# Altium footprint library CON 90814-0816.PcbLib: 1 footprints
Each footprint in its own frame and in the unit in brackets; x right, y up, seen from the top. Pads: shape width x height; smd on the part's side, far side on the other; paste and mask are expansions set on the pad; w line width, h text height; cw(c..) or ccw(c..) is an arc to the next point about the centre after c.
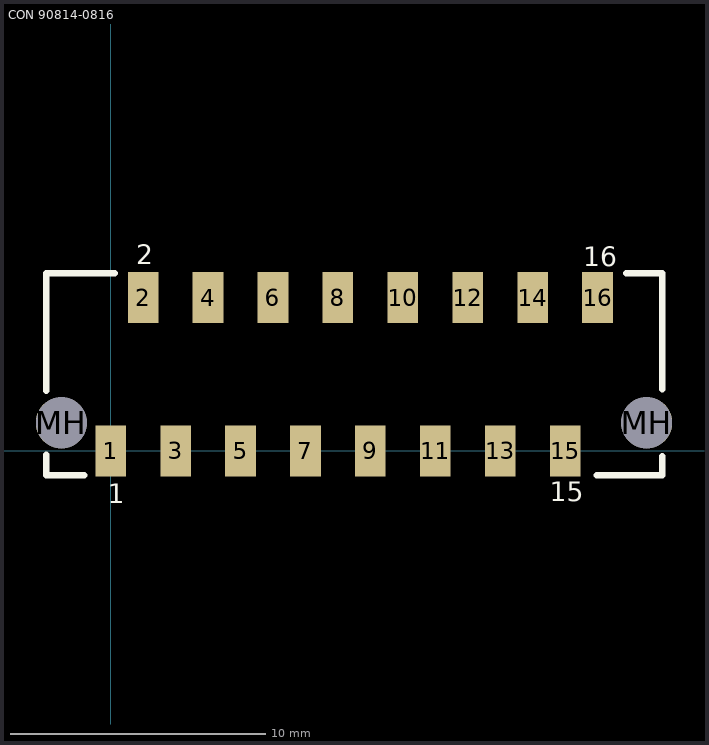
[diagram p0: the footprint, top view; thin cyan lines are the x and y axes]

## CON 90814-0816 [mm]
pads (18):
  rect 1.2x2 smd: 1(0,0) 2(1.27,6) 3(2.54,0) 4(3.81,6) 5(5.08,0) 6(6.35,6) 7(7.62,0) 8(8.89,6) 9(10.16,0) 10(11.43,6) 11(12.7,0) 12(13.97,6) 13(15.24,0) 14(16.51,6) 15(17.78,0) 16(19.05,6)
  round 2 hole 2 unplated: MH(-1.93,1.1) MH(20.97,1.1)
Top Overlay:
  lines w0.254: -2.53,-0.958 -2.53,-0.146 ; -2.53,-0.95 -1.03,-0.95 ; -2.53,2.357 -2.53,6.95 0.153,6.95 ; 19.018,-0.958 21.59,-0.958 21.59,-0.211 ; 20.164,6.95 21.59,6.95 21.59,2.41
  text "15" at 17.172,-1.972 h0.76
  text "16" at 18.482,7.226 h0.76
  text "2" at 0.992,7.311 h0.76
  text "1" at -0.109,-2.059 h0.76
3D body: height 5.12, standoff -1.28, extent -2.53,-0.45 21.57,6.45